# EAGLE library part TEA5764HN (library micro-philips)
FM radio + RDS single chip electronically tuned FM stereo radio with Radio Data System (RDS) and Radio Broadcast Data System (RBDS) demodulator and RDS/RBDS decoder for portable application with fully integrated IF selectivity and demodulation. Source: http://www.nxp.com .. TEA5764HN_2.pdf
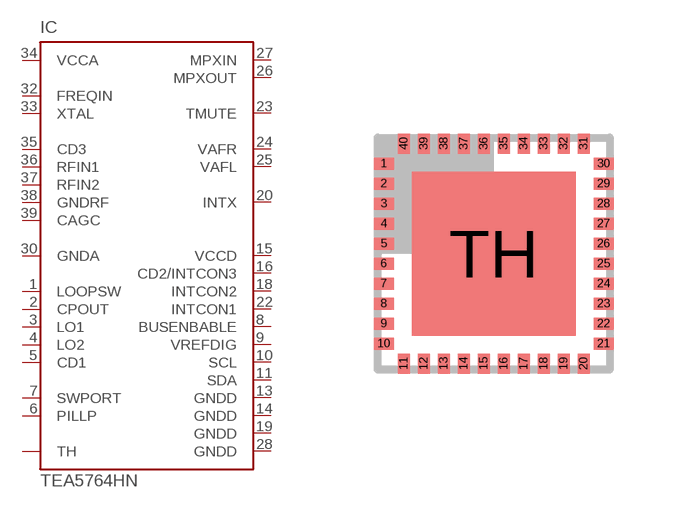
[diagram p27: symbol with the pads of HVQFN40; footprint HVQFN40]

Designator prefix IC

## TEA5764HN  [HVQFN40]
1  LOOPSW  in
2  CPOUT  in
3  LO1  in
4  LO2  in
5  CD1  in
6  PILLP  in
7  SWPORT  out
8  BUSENBABLE  in
9  VREFDIG  in
10  SCL  in
11  SDA
13  GNDD  pwr
14  GNDD  pwr
15  VCCD  pwr
16  CD2/INTCON3  in
18  INTCON2  in
19  GNDD  pwr
20  INTX  out
22  INTCON1  in
23  TMUTE  in
24  VAFR  out
25  VAFL  out
26  MPXOUT  out
27  MPXIN  in
28  GNDD  pwr
30  GNDA  in
32  FREQIN  in
33  XTAL  in
34  VCCA  in
35  CD3  in
36  RFIN1  in
37  RFIN2  in
38  GNDRF  in
39  CAGC  in
TH  TH  pas

## Footprint HVQFN40 (pad centres in mm)
HVQFN40 plastic thermal enhanced very thin quad flat package SOT618-1 no leads; 40 terminals; body 6 x 6 x 0.85 mm Source: http://www.semiconductors.philips.com/acrobat_download/packages/SOT618-1.pdf
smd 0.5 x 0.3: 1 -2.75,2.25; 2 -2.75,1.75; 3 -2.75,1.25; 4 -2.75,0.75; 5 -2.75,0.25; 6 -2.75,-0.25; 7 -2.75,-0.75; 8 -2.75,-1.25; 9 -2.75,-1.75; 10 -2.75,-2.25; 21 2.75,-2.25; 22 2.75,-1.75; 23 2.75,-1.25; 24 2.75,-0.75; 25 2.75,-0.25; 26 2.75,0.25; 27 2.75,0.75; 28 2.75,1.25; 29 2.75,1.75; 30 2.75,2.25
smd 0.3 x 0.5: 11 -2.25,-2.75; 12 -1.75,-2.75; 13 -1.25,-2.75; 14 -0.75,-2.75; 15 -0.25,-2.75; 16 0.25,-2.75; 17 0.75,-2.75; 18 1.25,-2.75; 19 1.75,-2.75; 20 2.25,-2.75; 31 2.25,2.75; 32 1.75,2.75; 33 1.25,2.75; 34 0.75,2.75; 35 0.25,2.75; 36 -0.25,2.75; 37 -0.75,2.75; 38 -1.25,2.75; 39 -1.75,2.75; 40 -2.25,2.75
smd 4.1 x 4.1: TH 0,0